# EAGLE library part CERESAT (library dimrobotics)
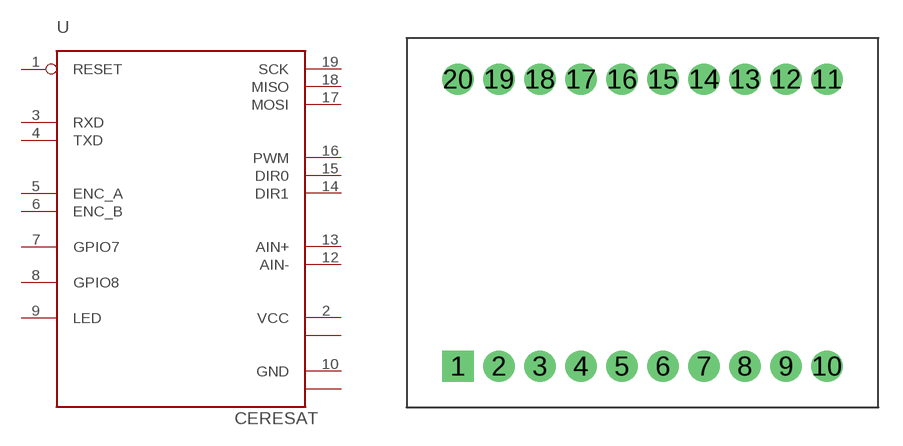
[diagram p0: symbol with the pads of DIP20-EXT; footprint DIP20-EXT]

Designator prefix -

## CERESAT-2  [DIP20-EXT]
1  RESET  in
2  VCC  in
3  RXD  in
4  TXD  out
5  ENC_A  in
6  ENC_B  in
7  GPIO7
8  GPIO8
9  LED  out
10  GND  pwr
11  GND1  pwr
12  AIN-  in
13  AIN+  in
14  DIR1  in
15  DIR0  in
16  PWM  out
17  MOSI  in
18  MISO  out
19  SCK  in
20  VCC1  in

## Footprint DIP20-EXT (pad centres in mm)
drill 0.9 pad 1.93 square: 1 0,0
drill 0.9 pad 1.93: 2 2.54,0; 3 5.08,0; 4 7.62,0; 5 10.16,0; 6 12.7,0; 7 15.24,0; 8 17.78,0; 9 20.32,0; 10 22.86,0; 11 22.86,17.78; 12 20.32,17.78; 13 17.78,17.78; 14 15.24,17.78; 15 12.7,17.78; 16 10.16,17.78; 17 7.62,17.78; 18 5.08,17.78; 19 2.54,17.78; 20 0,17.78